# Altium footprint library CON4_100mil_FAN.PcbLib: 1 footprints
Each footprint in its own frame and in the unit in brackets; x right, y up, seen from the top. Pads: shape width x height; smd on the part's side, far side on the other; paste and mask are expansions set on the pad; w line width, h text height; cw(c..) or ccw(c..) is an arc to the next point about the centre after c.
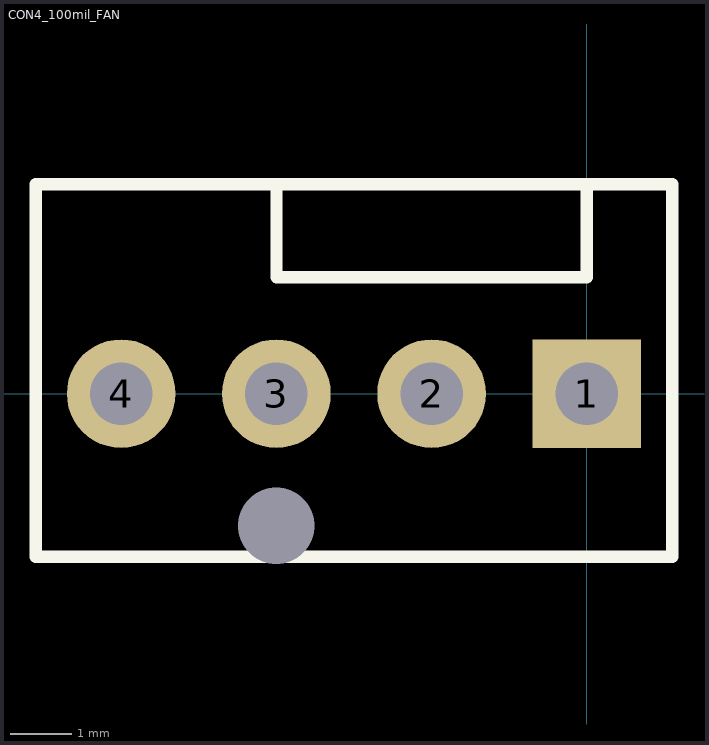
[diagram p0: the footprint, top view; thin cyan lines are the x and y axes]

## CON4_100mil_FAN [mil] "4pin PWM Fan connector"
height 280
pads (5):
  round 0 hole 49.21 unplated: 0(-200,-85.04)
  rect 70x70 hole 40.16: 1(0,0)
  round 70 hole 40.16: 2(-100,0) 3(-200,0) 4(-300,0)
Top Overlay:
  lines w7.87: -200,135 -200,75 0,75 0,135 ; -355,-105 55,-105 55,135 -355,135 -355,-105
3D body "470531000.stp": height 393.7, standoff -137.8, extent -350.77,-99.99 50.8,129.93